# EAGLE library part MCP73843 (library lightsuits)
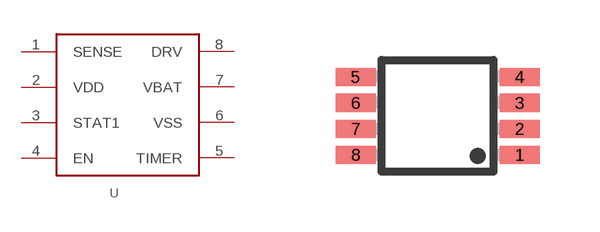
[diagram p11: symbol with the pads of 8-MSOP; footprint 8-MSOP]

Designator prefix -

## MCP73843  [8-MSOP]
1  SENSE
2  VDD
3  STAT1
4  EN
5  TIMER
6  VSS
7  VBAT
8  DRV

## Footprint 8-MSOP (pad centres in mm)
smd 1 x 0.45: 1 2.05,-0.975; 2 2.05,-0.325; 3 2.05,0.325; 4 2.05,0.975; 5 -2.05,0.975; 6 -2.05,0.325; 7 -2.05,-0.325; 8 -2.05,-0.975